# Altium footprint library CONN_TBLOCK_3P81.PcbLib: 55 footprints (part 1 of 4)
Each footprint in its own frame and in the unit in brackets; x right, y up, seen from the top. Pads: shape width x height; smd on the part's side, far side on the other; paste and mask are expansions set on the pad; w line width, h text height; cw(c..) or ccw(c..) is an arc to the next point about the centre after c.
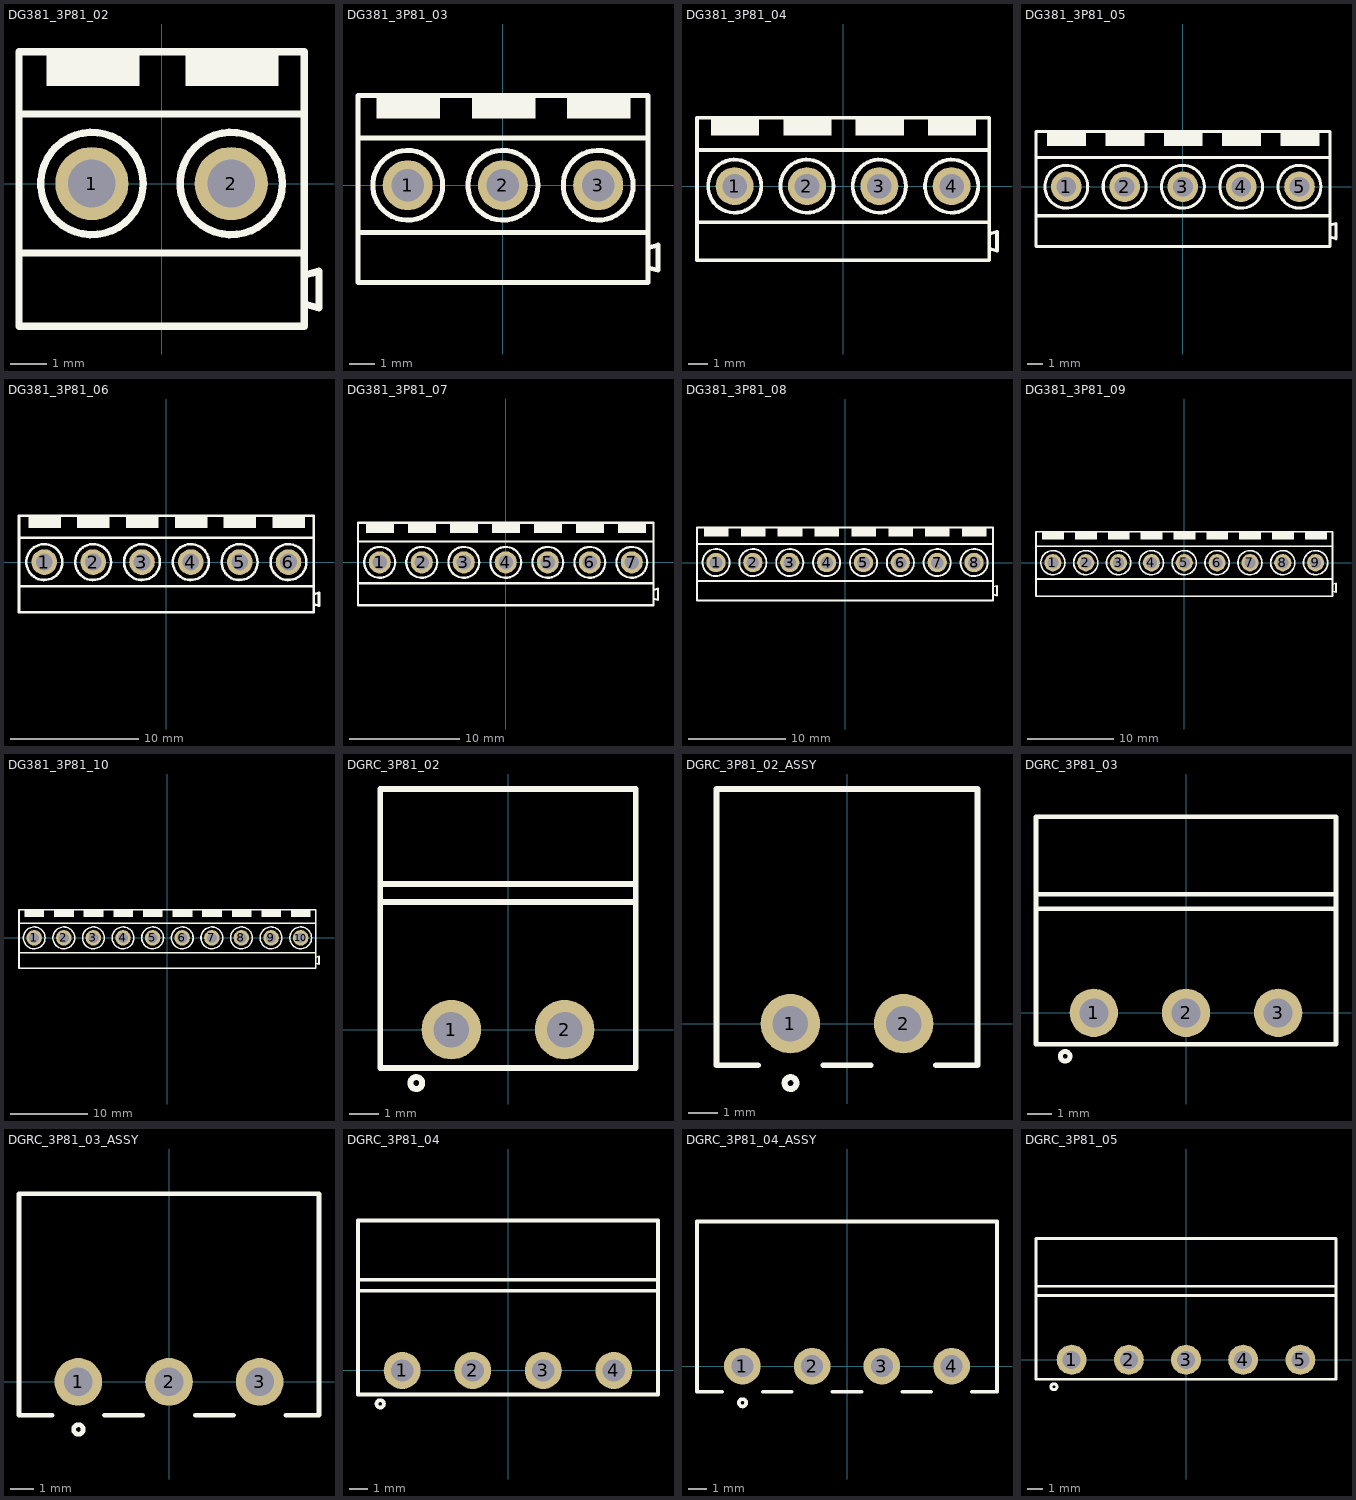
[diagram p0: the footprints below, top view; thin cyan lines are the x and y axes]

## DG381_3P81_02 [mm] "Terminal Block Screw, Pitch 3.81mm, H 8.6mm"
height 8.6
pads (2):
  round 2 / inner round 2 / far side rect 2.4x3 hole 1.3: 1(-1.905,0)
  round 2 / inner round 2 / far side oval 2.4x3 hole 1.3: 2(1.905,0)
Top Overlay:
  circle w0.2: c-1.905,0 r1.4
  circle w0.2: c1.905,0 r1.4
  rectangle: 0.659,2.667 3.199,3.556
  rectangle: -3.151,2.667 -0.611,3.556
  lines w0.2: -3.9,-1.9 3.9,-1.9 ; -3.9,1.9 3.9,1.9 ; 3.905,-3.3 4.305,-3.4 4.305,-2.4 3.905,-2.5 ; -3.9,-3.9 -3.9,3.6 3.9,3.6 3.9,-3.9 -3.9,-3.9
3D body "DG381-3.81-02P.stp": height 8.6, standoff -3.6, extent -3.81,-3.875 4.23,3.525

## DG381_3P81_03 [mm] "Terminal Block Screw, Pitch 3.81mm, H 8.6mm"
height 8.6
pads (3):
  round 2 / inner round 2 / far side rect 2.4x3 hole 1.3: 1(-3.81,0)
  round 2 / inner round 2 / far side oval 2.4x3 hole 1.3: 2(0,0) 3(3.81,0)
Top Overlay:
  circle w0.2: c-3.81,0 r1.4
  circle w0.2: c0,0 r1.4
  circle w0.2: c3.81,0 r1.4
  rectangle: -5.056,2.667 -2.516,3.556
  rectangle: -1.246,2.667 1.294,3.556
  rectangle: 2.564,2.667 5.104,3.556
  lines w0.2: -5.8,-1.9 5.8,-1.9 ; -5.8,1.9 5.8,1.9 ; 5.805,-3.3 6.205,-3.4 6.205,-2.4 5.805,-2.5 ; -5.8,-3.9 5.8,-3.9 5.8,3.6 -5.8,3.6 -5.8,-3.9
3D body "DG381-3.81-03P.stp": height 8.6, standoff -3.6, extent -5.715,-3.875 6.135,3.525

## DG381_3P81_04 [mm] "Terminal Block Screw, Pitch 3.81mm, H 8.6mm"
height 8.6
pads (4):
  round 2 / inner round 2 / far side rect 2.4x3 hole 1.3: 1(-5.715,0)
  round 2 / inner round 2 / far side oval 2.4x3 hole 1.3: 2(-1.905,0) 3(1.905,0) 4(5.715,0)
Top Overlay:
  circle w0.2: c-5.715,0 r1.4
  circle w0.2: c-1.905,0 r1.4
  circle w0.2: c1.905,0 r1.4
  circle w0.2: c5.715,0 r1.4
  rectangle: -6.961,2.667 -4.421,3.556
  rectangle: -3.151,2.667 -0.611,3.556
  rectangle: 0.659,2.667 3.199,3.556
  rectangle: 4.469,2.667 7.009,3.556
  lines w0.2: -7.7,-1.9 7.7,-1.9 ; -7.7,1.9 7.7,1.9 ; 7.705,-3.3 8.105,-3.4 8.105,-2.4 7.705,-2.5 ; -7.7,-3.9 7.7,-3.9 7.7,3.6 -7.7,3.6 -7.7,-3.9
3D body "DG381-3.81-04P.stp": height 8.6, standoff -3.6, extent -7.62,-3.875 8.04,3.525

## DG381_3P81_05 [mm] "Terminal Block Screw, Pitch 3.81mm, H 8.6mm"
height 8.6
pads (5):
  round 2 / inner round 2 / far side rect 2.4x3 hole 1.3: 1(-7.62,0)
  round 2 / inner round 2 / far side oval 2.4x3 hole 1.3: 2(-3.81,0) 3(0,0) 4(3.81,0) 5(7.62,0)
Top Overlay:
  circle w0.2: c-7.62,0 r1.4
  circle w0.2: c-3.81,0 r1.4
  circle w0.2: c0,0 r1.4
  circle w0.2: c3.81,0 r1.4
  circle w0.2: c7.62,0 r1.4
  rectangle: -8.866,2.667 -6.326,3.556
  rectangle: -5.056,2.667 -2.516,3.556
  rectangle: -1.246,2.667 1.294,3.556
  rectangle: 2.564,2.667 5.104,3.556
  rectangle: 6.374,2.667 8.914,3.556
  lines w0.2: -9.6,-1.9 9.6,-1.9 ; -9.6,1.9 9.6,1.9 ; 9.605,-3.3 10.005,-3.4 10.005,-2.4 9.605,-2.5 ; -9.6,-3.9 -9.6,3.6 9.6,3.6 9.6,-3.9 -9.6,-3.9
3D body "DG381-3.81-05P.stp": height 8.6, standoff -3.6, extent -9.525,-3.875 9.945,3.525

## DG381_3P81_06 [mm] "Terminal Block Screw, Pitch 3.81mm, H 8.6mm"
height 8.6
pads (6):
  round 2 / inner round 2 / far side rect 2.4x3 hole 1.3: 1(-9.525,0)
  round 2 / inner round 2 / far side oval 2.4x3 hole 1.3: 2(-5.715,0) 3(-1.905,0) 4(1.905,0) 5(5.715,0) 6(9.525,0)
Top Overlay:
  circle w0.2: c9.525,0 r1.4
  circle w0.2: c5.715,0 r1.4
  circle w0.2: c1.905,0 r1.4
  circle w0.2: c-1.905,0 r1.4
  circle w0.2: c-5.715,0 r1.4
  circle w0.2: c-9.525,0 r1.4
  rectangle: 8.279,2.667 10.819,3.556
  rectangle: 4.469,2.667 7.009,3.556
  rectangle: 0.659,2.667 3.199,3.556
  rectangle: -3.151,2.667 -0.611,3.556
  rectangle: -6.961,2.667 -4.421,3.556
  rectangle: -10.771,2.667 -8.231,3.556
  lines w0.2: -11.5,-1.9 11.5,-1.9 ; -11.5,1.9 11.5,1.9 ; 11.505,-3.3 11.905,-3.4 11.905,-2.4 11.505,-2.5 ; -11.5,-3.9 -11.5,3.6 11.5,3.6 11.5,-3.9 -11.5,-3.9
3D body "DG381-3.81-06P.stp": height 8.6, standoff -3.6, extent -11.43,-3.875 11.85,3.525

## DG381_3P81_07 [mm] "Terminal Block Screw, Pitch 3.81mm, H 8.6mm"
height 8.6
pads (7):
  round 2 / inner round 2 / far side rect 2.4x3 hole 1.3: 1(-11.43,0)
  round 2 / inner round 2 / far side oval 2.4x3 hole 1.3: 2(-7.62,0) 3(-3.81,0) 4(0,0) 5(3.81,0) 6(7.62,0) 7(11.43,0)
Top Overlay:
  circle w0.2: c-11.43,0 r1.4
  circle w0.2: c-7.62,0 r1.4
  circle w0.2: c-3.81,0 r1.4
  circle w0.2: c0,0 r1.4
  circle w0.2: c3.81,0 r1.4
  circle w0.2: c7.62,0 r1.4
  circle w0.2: c11.43,0 r1.4
  rectangle: -12.676,2.667 -10.136,3.556
  rectangle: -8.866,2.667 -6.326,3.556
  rectangle: -5.056,2.667 -2.516,3.556
  rectangle: -1.246,2.667 1.294,3.556
  rectangle: 2.564,2.667 5.104,3.556
  rectangle: 6.374,2.667 8.914,3.556
  rectangle: 10.184,2.667 12.724,3.556
  lines w0.2: -13.4,-1.9 13.4,-1.9 ; -13.4,1.9 13.4,1.9 ; 13.405,-3.3 13.805,-3.4 13.805,-2.4 13.405,-2.5 ; -13.4,-3.9 13.4,-3.9 13.4,3.6 -13.4,3.6 -13.4,-3.9
3D body "DG381-3.81-07P.stp": height 8.6, standoff -3.6, extent -13.335,-3.875 13.755,3.525

## DG381_3P81_08 [mm] "Terminal Block Screw, Pitch 3.81mm, H 8.6mm"
height 8.6
pads (8):
  round 2 / inner round 2 / far side rect 2.4x3 hole 1.3: 1(-13.335,0)
  round 2 / inner round 2 / far side oval 2.4x3 hole 1.3: 2(-9.525,0) 3(-5.715,0) 4(-1.905,0) 5(1.905,0) 6(5.715,0) 7(9.525,0) 8(13.335,0)
Top Overlay:
  circle w0.2: c-13.335,0 r1.4
  circle w0.2: c-9.525,0 r1.4
  circle w0.2: c-5.715,0 r1.4
  circle w0.2: c-1.905,0 r1.4
  circle w0.2: c1.905,0 r1.4
  circle w0.2: c5.715,0 r1.4
  circle w0.2: c9.525,0 r1.4
  circle w0.2: c13.335,0 r1.4
  rectangle: -14.581,2.667 -12.041,3.556
  rectangle: -10.771,2.667 -8.231,3.556
  rectangle: -6.961,2.667 -4.421,3.556
  rectangle: -3.151,2.667 -0.611,3.556
  rectangle: 0.659,2.667 3.199,3.556
  rectangle: 4.469,2.667 7.009,3.556
  rectangle: 8.279,2.667 10.819,3.556
  rectangle: 12.089,2.667 14.629,3.556
  lines w0.2: -15.3,-1.9 15.3,-1.9 ; -15.3,1.9 15.3,1.9 ; 15.305,-3.3 15.705,-3.4 15.705,-2.4 15.305,-2.5 ; -15.3,-3.9 15.3,-3.9 15.3,3.6 -15.3,3.6 -15.3,-3.9
3D body "DG381-3.81-08P.stp": height 8.6, standoff -3.6, extent -15.24,-3.875 15.66,3.525

## DG381_3P81_09 [mm] "Terminal Block Screw, Pitch 3.81mm, H 8.6mm"
height 8.6
pads (9):
  round 2 / inner round 2 / far side rect 2.4x3 hole 1.3: 1(-15.24,0)
  round 2 / inner round 2 / far side oval 2.4x3 hole 1.3: 2(-11.43,0) 3(-7.62,0) 4(-3.81,0) 5(0,0) 6(3.81,0) 7(7.62,0) 8(11.43,0) 9(15.24,0)
Top Overlay:
  circle w0.2: c-15.24,0 r1.4
  circle w0.2: c-11.43,0 r1.4
  circle w0.2: c-7.62,0 r1.4
  circle w0.2: c-3.81,0 r1.4
  circle w0.2: c0,0 r1.4
  circle w0.2: c3.81,0 r1.4
  circle w0.2: c7.62,0 r1.4
  circle w0.2: c11.43,0 r1.4
  circle w0.2: c15.24,0 r1.4
  rectangle: -16.486,2.667 -13.946,3.556
  rectangle: -12.676,2.667 -10.136,3.556
  rectangle: -8.866,2.667 -6.326,3.556
  rectangle: -5.056,2.667 -2.516,3.556
  rectangle: -1.246,2.667 1.294,3.556
  rectangle: 2.564,2.667 5.104,3.556
  rectangle: 6.374,2.667 8.914,3.556
  rectangle: 10.184,2.667 12.724,3.556
  rectangle: 13.994,2.667 16.534,3.556
  lines w0.2: -17.2,-1.9 17.2,-1.9 ; -17.2,1.9 17.2,1.9 ; 17.205,-3.3 17.605,-3.4 17.605,-2.4 17.205,-2.5 ; -17.2,-3.9 17.2,-3.9 17.2,3.6 -17.2,3.6 -17.2,-3.9
3D body "DG381-3.81-09P.stp": height 8.6, standoff -3.6, extent -17.145,-3.875 17.565,3.525

## DG381_3P81_10 [mm] "Terminal Block Screw, Pitch 3.81mm, H 8.6mm"
height 8.6
pads (10):
  round 2 / inner round 2 / far side rect 2.4x3 hole 1.3: 1(-17.145,0)
  round 2 / inner round 2 / far side oval 2.4x3 hole 1.3: 2(-13.335,0) 3(-9.525,0) 4(-5.715,0) 5(-1.905,0) 6(1.905,0) 7(5.715,0) 8(9.525,0) 9(13.335,0) 10(17.145,0)
Top Overlay:
  circle w0.2: c-17.145,0 r1.4
  circle w0.2: c-13.335,0 r1.4
  circle w0.2: c-9.525,0 r1.4
  circle w0.2: c-5.715,0 r1.4
  circle w0.2: c-1.905,0 r1.4
  circle w0.2: c1.905,0 r1.4
  circle w0.2: c5.715,0 r1.4
  circle w0.2: c9.525,0 r1.4
  circle w0.2: c13.335,0 r1.4
  circle w0.2: c17.145,0 r1.4
  rectangle: -18.391,2.667 -15.851,3.556
  rectangle: -14.581,2.667 -12.041,3.556
  rectangle: -10.771,2.667 -8.231,3.556
  rectangle: -6.961,2.667 -4.421,3.556
  rectangle: -3.151,2.667 -0.611,3.556
  rectangle: 0.659,2.667 3.199,3.556
  rectangle: 4.469,2.667 7.009,3.556
  rectangle: 8.279,2.667 10.819,3.556
  rectangle: 12.089,2.667 14.629,3.556
  rectangle: 15.899,2.667 18.439,3.556
  lines w0.2: -19.1,-1.9 19.1,-1.9 ; -19.1,1.9 19.1,1.9 ; 19.105,-3.3 19.505,-3.4 19.505,-2.4 19.105,-2.5 ; -19.1,-3.9 19.1,-3.9 19.1,3.6 -19.1,3.6 -19.1,-3.9
3D body "DG381-3.81-10P.stp": height 8.6, standoff -3.6, extent -19.05,-3.875 19.47,3.525

## DGRC_3P81_02 [mm] "Terminal Block, 3.81mm pitch, Right Angle"
pads (2):
  round 2 / inner round 2 / far side oval 2.4x3 hole 1.2: 1(-1.905,0) 2(1.905,0)
Top Overlay:
  circle w0.2: c-3.09,-1.8 r0.2
  lines w0.2: -4.3,4.3 4.3,4.3 ; -4.3,4.9 4.3,4.9 ; -4.3,-1.3 4.3,-1.3 4.3,8.1 -4.3,8.1 -4.3,-1.3
3D body "TBP02R1-381-02GR.step": height 7.3, standoff -3.4, extent -4.205,-1.2 4.205,8

## DGRC_3P81_02_ASSY [mm] "PHOENIX MC 1.5, EDGK-3.81, 3.81mm pitch, 2pin"
height 6.5
pads (2):
  round 2 / inner round 2 / far side oval 2.4x3 hole 1.2: 1(-1.905,0) 2(1.905,0)
Top Overlay:
  circle w0.2: c-1.9,-2 r0.2
  lines w0.2: -3,-1.4 -4.4,-1.4 -4.4,7.9 4.4,7.9 4.4,-1.4 3,-1.4 ; -0.8,-1.4 0.8,-1.4
3D body "User Library-KEFA 3_81mm_2pin_RA.STEP": height 7.98, standoff -3.3, extent -4.505,-1.3 4.505,17.1

## DGRC_3P81_03 [mm] "Terminal Block, 3.81mm pitch, Right Angle"
pads (3):
  round 2 / inner round 2 / far side oval 2.4x3 hole 1.2: 1(-3.81,0) 2(0,0) 3(3.81,0)
Top Overlay:
  circle w0.2: c-4.995,-1.8 r0.2
  lines w0.2: -6.2,4.3 6.2,4.3 ; -6.2,4.9 6.2,4.9 ; -6.2,-1.3 -6.2,8.1 6.2,8.1 6.2,-1.3 -6.2,-1.3
3D body "TBP02R1-381-03GR.step": height 7.3, standoff -3.4, extent -6.11,-1.2 6.11,8

## DGRC_3P81_03_ASSY [mm] "PHOENIX MC 1.5, EDGK-3.81, 3.81mm pitch, 3pin"
height 6.5
pads (3):
  round 2 / inner round 2 / far side oval 2.4x3 hole 1.2: 1(-3.81,0) 2(0,0) 3(3.81,0)
Top Overlay:
  circle w0.2: c-3.805,-2 r0.2
  lines w0.2: -4.905,-1.4 -6.3,-1.4 -6.3,7.9 6.3,7.9 6.3,-1.4 4.9,-1.4 ; -2.705,-1.4 -1.105,-1.4 ; 1.105,-1.4 2.705,-1.4
3D body "User Library-KEFA 3_81mm_3pin_RA.STEP": height 7.98, standoff -3.3, extent -6.41,-1.3 6.41,17.1

## DGRC_3P81_04 [mm] "Terminal Block, 3.81mm pitch, Right Angle"
pads (4):
  round 2 / inner round 2 / far side oval 2.4x3 hole 1.2: 1(-5.715,0) 2(-1.905,0) 3(1.905,0) 4(5.715,0)
Top Overlay:
  circle w0.2: c-6.9,-1.8 r0.2
  lines w0.2: -8.1,4.3 8.1,4.3 ; -8.1,4.9 8.1,4.9 ; -8.1,-1.3 -8.1,8.1 8.1,8.1 8.1,-1.3 -8.1,-1.3
3D body "TBP02R1-381-04GR.step": height 7.3, standoff -3.4, extent -8.015,-1.2 8.015,8

## DGRC_3P81_04_ASSY [mm] "PHOENIX MC 1.5, EDGK-3.81, 3.81mm pitch, 4pin"
height 6.5
pads (4):
  round 2 / inner round 2 / far side oval 2.4x3 hole 1.2: 1(-5.715,0) 2(-1.905,0) 3(1.905,0) 4(5.715,0)
Top Overlay:
  circle w0.2: c-5.71,-2 r0.2
  lines w0.2: -6.81,-1.4 -8.195,-1.4 -8.195,7.9 8.195,7.9 8.195,-1.4 6.81,-1.4 ; -4.61,-1.4 -3.01,-1.4 ; -0.8,-1.4 0.8,-1.4 ; 3.01,-1.4 4.61,-1.4
3D body "User Library-KEFA 3_81mm_4pin_RA.STEP": height 7.98, standoff -3.3, extent -8.315,-1.3 8.315,17.1

## DGRC_3P81_05 [mm] "Terminal Block, 3.81mm pitch, Right Angle"
pads (5):
  round 2 / inner round 2 / far side oval 2.4x3 hole 1.2: 1(-7.62,0) 2(-3.81,0) 3(0,0) 4(3.81,0) 5(7.62,0)
Top Overlay:
  circle w0.2: c-8.805,-1.8 r0.2
  lines w0.2: -10,4.3 10,4.3 ; -10,4.9 10,4.9 ; -10,-1.3 -10,8.1 10,8.1 10,-1.3 -10,-1.3
3D body "TBP02R1-381-05GR.step": height 7.3, standoff -3.4, extent -9.92,-1.2 9.92,8